# Altium integrated library Dallas Memory Non-Volatile RAM.IntLib: 259 symbols (part 6 of 6)
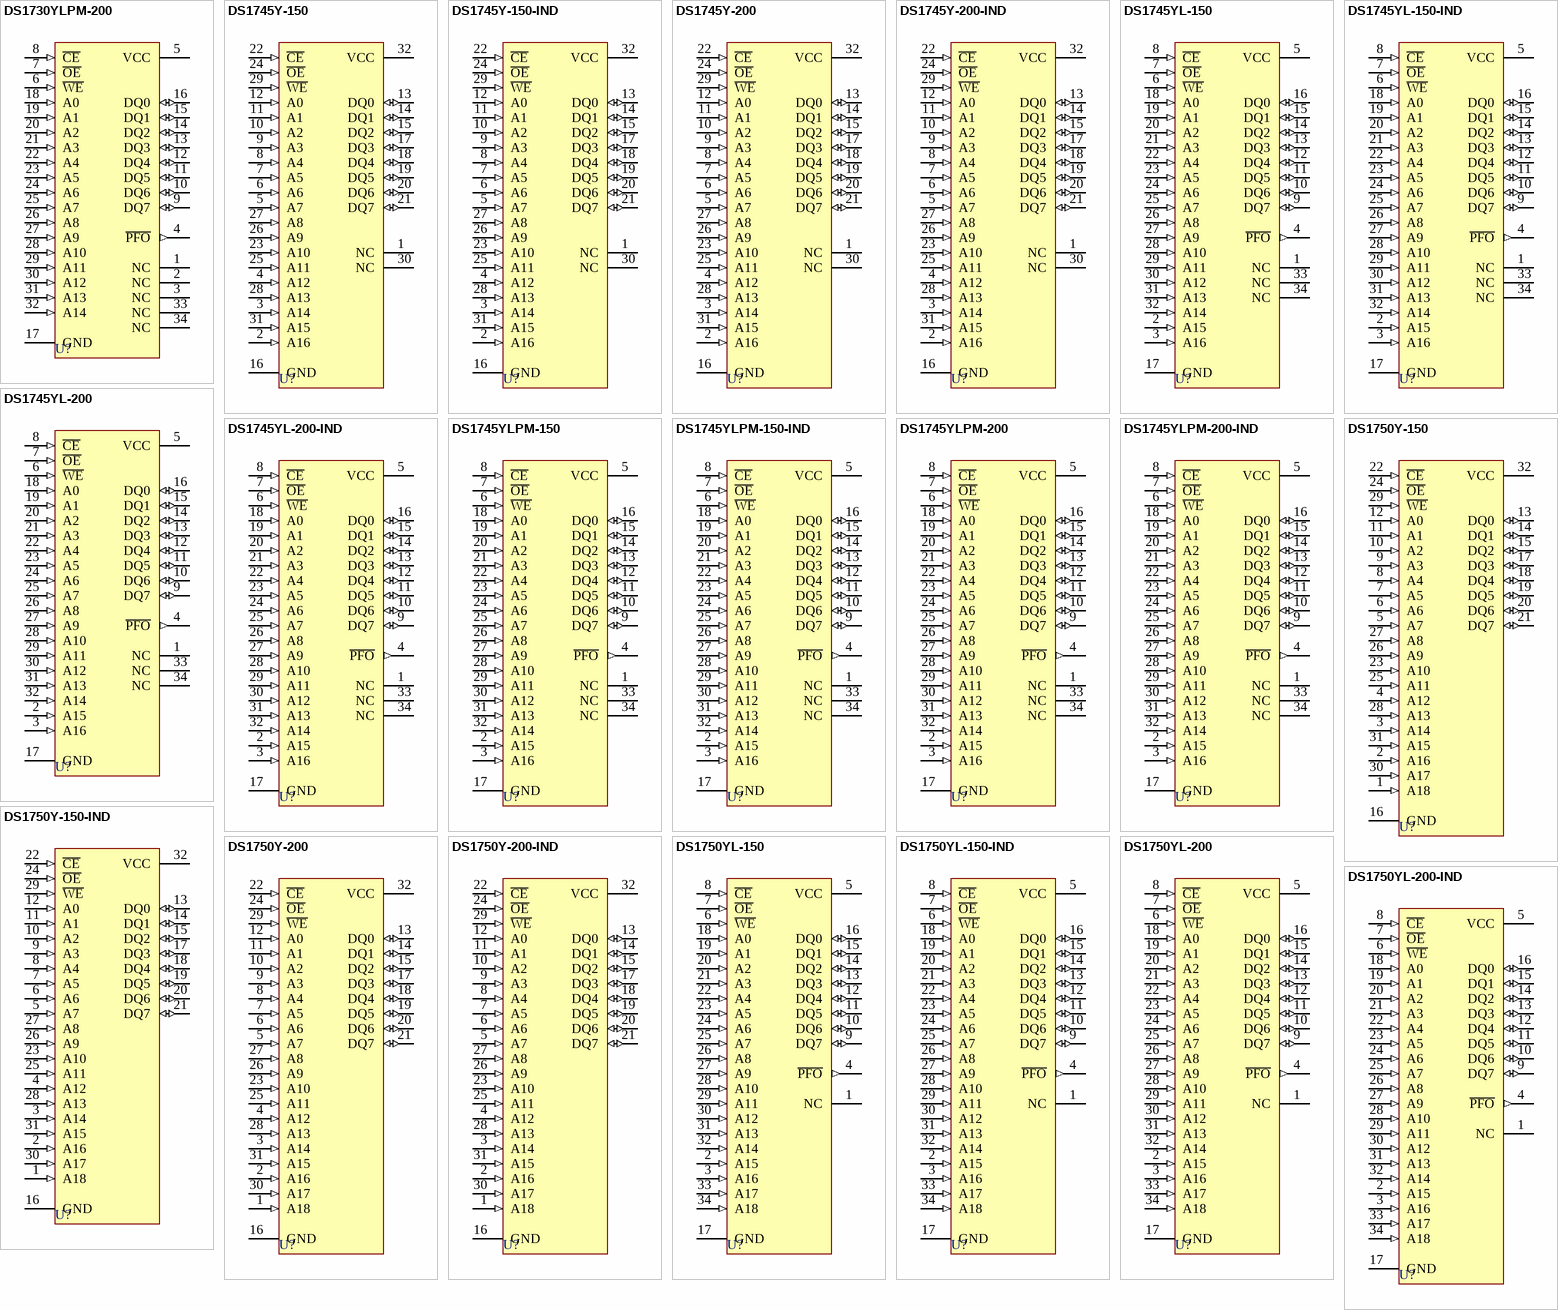
[diagram p16: symbols DS1730YLPM-200 to DS1750YL-200-IND]

## DS1750Y-150
designator U?
3V Partitionable 4096K Nonvolatile SRAM; Published: 13-Oct-2000; LatestRevisionDate: 17-Jul-2002; LatestRevisionNote: PCB footprint, 'DIP-P32/X1.2' replaced; Re-released for DXP Platform.; DatasheetVersion: 3-Oct-1995; PackageReference: ENDIP32; Publisher: Altium Limited; PackageDescription: DIP; 32 Rectangular Pins; Row Space 15.24 mm; Pitch 2.54 mm; ComponentLink1Description: Manufacturer Link; ComponentLink1URL: http://www.maxim-ic.com/
footprint ENDIP32 (DIP; 32 Rectangular Pins; Row Space 15.24 mm; Pitch 2.54 mm)
pins: 1 A18 (in), 2 A16 (in), 3 A14 (in), 4 A12 (in), 5 A7 (in), 6 A6 (in), 7 A5 (in), 8 A4 (in), 9 A3 (in), 10 A2 (in), 11 A1 (in), 12 A0 (in), 13 DQ0 (io), 14 DQ1 (io), 15 DQ2 (io), 16 GND (power), 17 DQ3 (io), 18 DQ4 (io), 19 DQ5 (io), 20 DQ6 (io), 21 DQ7 (io), 22 ~{CE} (in), 23 A10 (in), 24 ~{OE} (in), 25 A11 (in), 26 A9 (in), 27 A8 (in), 28 A13 (in), 29 ~{WE} (in), 30 A17 (in), 31 A15 (in), 32 VCC (power)

## DS1750Y-150-IND
designator U?
3V Partitionable 4096K Nonvolatile SRAM; Published: 13-Oct-2000; LatestRevisionDate: 17-Jul-2002; LatestRevisionNote: PCB footprint, 'DIP-P32/X1.2' replaced; Re-released for DXP Platform.; DatasheetVersion: 3-Oct-1995; PackageReference: ENDIP32; Publisher: Altium Limited; PackageDescription: DIP; 32 Rectangular Pins; Row Space 15.24 mm; Pitch 2.54 mm; ComponentLink1Description: Manufacturer Link; ComponentLink1URL: http://www.maxim-ic.com/
footprint ENDIP32 (DIP; 32 Rectangular Pins; Row Space 15.24 mm; Pitch 2.54 mm)
pins: 1 A18 (in), 2 A16 (in), 3 A14 (in), 4 A12 (in), 5 A7 (in), 6 A6 (in), 7 A5 (in), 8 A4 (in), 9 A3 (in), 10 A2 (in), 11 A1 (in), 12 A0 (in), 13 DQ0 (io), 14 DQ1 (io), 15 DQ2 (io), 16 GND (power), 17 DQ3 (io), 18 DQ4 (io), 19 DQ5 (io), 20 DQ6 (io), 21 DQ7 (io), 22 ~{CE} (in), 23 A10 (in), 24 ~{OE} (in), 25 A11 (in), 26 A9 (in), 27 A8 (in), 28 A13 (in), 29 ~{WE} (in), 30 A17 (in), 31 A15 (in), 32 VCC (power)

## DS1750Y-200
designator U?
3V Partitionable 4096K Nonvolatile SRAM; Published: 13-Oct-2000; LatestRevisionDate: 17-Jul-2002; LatestRevisionNote: PCB footprint, 'DIP-P32/X1.2' replaced; Re-released for DXP Platform.; DatasheetVersion: 3-Oct-1995; PackageReference: ENDIP32; Publisher: Altium Limited; PackageDescription: DIP; 32 Rectangular Pins; Row Space 15.24 mm; Pitch 2.54 mm; ComponentLink1Description: Manufacturer Link; ComponentLink1URL: http://www.maxim-ic.com/
footprint ENDIP32 (DIP; 32 Rectangular Pins; Row Space 15.24 mm; Pitch 2.54 mm)
pins: 1 A18 (in), 2 A16 (in), 3 A14 (in), 4 A12 (in), 5 A7 (in), 6 A6 (in), 7 A5 (in), 8 A4 (in), 9 A3 (in), 10 A2 (in), 11 A1 (in), 12 A0 (in), 13 DQ0 (io), 14 DQ1 (io), 15 DQ2 (io), 16 GND (power), 17 DQ3 (io), 18 DQ4 (io), 19 DQ5 (io), 20 DQ6 (io), 21 DQ7 (io), 22 ~{CE} (in), 23 A10 (in), 24 ~{OE} (in), 25 A11 (in), 26 A9 (in), 27 A8 (in), 28 A13 (in), 29 ~{WE} (in), 30 A17 (in), 31 A15 (in), 32 VCC (power)

## DS1750Y-200-IND
designator U?
3V Partitionable 4096K Nonvolatile SRAM; Published: 13-Oct-2000; LatestRevisionDate: 17-Jul-2002; LatestRevisionNote: PCB footprint, 'DIP-P32/X1.2' replaced; Re-released for DXP Platform.; DatasheetVersion: 3-Oct-1995; PackageReference: ENDIP32; Publisher: Altium Limited; PackageDescription: DIP; 32 Rectangular Pins; Row Space 15.24 mm; Pitch 2.54 mm; ComponentLink1Description: Manufacturer Link; ComponentLink1URL: http://www.maxim-ic.com/
footprint ENDIP32 (DIP; 32 Rectangular Pins; Row Space 15.24 mm; Pitch 2.54 mm)
pins: 1 A18 (in), 2 A16 (in), 3 A14 (in), 4 A12 (in), 5 A7 (in), 6 A6 (in), 7 A5 (in), 8 A4 (in), 9 A3 (in), 10 A2 (in), 11 A1 (in), 12 A0 (in), 13 DQ0 (io), 14 DQ1 (io), 15 DQ2 (io), 16 GND (power), 17 DQ3 (io), 18 DQ4 (io), 19 DQ5 (io), 20 DQ6 (io), 21 DQ7 (io), 22 ~{CE} (in), 23 A10 (in), 24 ~{OE} (in), 25 A11 (in), 26 A9 (in), 27 A8 (in), 28 A13 (in), 29 ~{WE} (in), 30 A17 (in), 31 A15 (in), 32 VCC (power)

## DS1750YL-150
designator U?
3V Partitionable 4096K Nonvolatile SRAM; Note: Pin number 1 is Not Connected (NC); Published: 13-Oct-2000; LatestRevisionDate: 17-Jul-2002; LatestRevisionNote: Re-released for DXP Platform.; DatasheetVersion: 3-Oct-1995; PackageVersion: Feb-1998; PackageReference: LPM34; Publisher: Altium Limited; PackageDescription: LPM; 34 Leads; Body 24.6 x 25 mm (LxW typ); Pitch 1.27 mm; ComponentLink1Description: Manufacturer Link; ComponentLink1URL: http://www.maxim-ic.com/
footprint LPM34
pins: 1 NC, 2 A15 (in), 3 A16 (in), 4 ~{PFO} (out), 5 VCC (power), 6 ~{WE} (in), 7 ~{OE} (in), 8 ~{CE} (in), 9 DQ7 (io), 10 DQ6 (io), 11 DQ5 (io), 12 DQ4 (io), 13 DQ3 (io), 14 DQ2 (io), 15 DQ1 (io), 16 DQ0 (io), 17 GND (power), 18 A0 (in), 19 A1 (in), 20 A2 (in), 21 A3 (in), 22 A4 (in), 23 A5 (in), 24 A6 (in), 25 A7 (in), 26 A8 (in), 27 A9 (in), 28 A10 (in), 29 A11 (in), 30 A12 (in), 31 A13 (in), 32 A14 (in), 33 A17 (in), 34 A18 (in)

## DS1750YL-150-IND
designator U?
3V Partitionable 4096K Nonvolatile SRAM; Note: Pin number 1 is Not Connected (NC); Published: 13-Oct-2000; LatestRevisionDate: 17-Jul-2002; LatestRevisionNote: Re-released for DXP Platform.; DatasheetVersion: 3-Oct-1995; PackageVersion: Feb-1998; PackageReference: LPM34; Publisher: Altium Limited; PackageDescription: LPM; 34 Leads; Body 24.6 x 25 mm (LxW typ); Pitch 1.27 mm; ComponentLink1Description: Manufacturer Link; ComponentLink1URL: http://www.maxim-ic.com/
footprint LPM34
pins: 1 NC, 2 A15 (in), 3 A16 (in), 4 ~{PFO} (out), 5 VCC (power), 6 ~{WE} (in), 7 ~{OE} (in), 8 ~{CE} (in), 9 DQ7 (io), 10 DQ6 (io), 11 DQ5 (io), 12 DQ4 (io), 13 DQ3 (io), 14 DQ2 (io), 15 DQ1 (io), 16 DQ0 (io), 17 GND (power), 18 A0 (in), 19 A1 (in), 20 A2 (in), 21 A3 (in), 22 A4 (in), 23 A5 (in), 24 A6 (in), 25 A7 (in), 26 A8 (in), 27 A9 (in), 28 A10 (in), 29 A11 (in), 30 A12 (in), 31 A13 (in), 32 A14 (in), 33 A17 (in), 34 A18 (in)

## DS1750YL-200
designator U?
3V Partitionable 4096K Nonvolatile SRAM; Note: Pin number 1 is Not Connected (NC); Published: 13-Oct-2000; LatestRevisionDate: 17-Jul-2002; LatestRevisionNote: Re-released for DXP Platform.; DatasheetVersion: 3-Oct-1995; PackageVersion: Feb-1998; PackageReference: LPM34; Publisher: Altium Limited; PackageDescription: LPM; 34 Leads; Body 24.6 x 25 mm (LxW typ); Pitch 1.27 mm; ComponentLink1Description: Manufacturer Link; ComponentLink1URL: http://www.maxim-ic.com/
footprint LPM34
pins: 1 NC, 2 A15 (in), 3 A16 (in), 4 ~{PFO} (out), 5 VCC (power), 6 ~{WE} (in), 7 ~{OE} (in), 8 ~{CE} (in), 9 DQ7 (io), 10 DQ6 (io), 11 DQ5 (io), 12 DQ4 (io), 13 DQ3 (io), 14 DQ2 (io), 15 DQ1 (io), 16 DQ0 (io), 17 GND (power), 18 A0 (in), 19 A1 (in), 20 A2 (in), 21 A3 (in), 22 A4 (in), 23 A5 (in), 24 A6 (in), 25 A7 (in), 26 A8 (in), 27 A9 (in), 28 A10 (in), 29 A11 (in), 30 A12 (in), 31 A13 (in), 32 A14 (in), 33 A17 (in), 34 A18 (in)

## DS1750YL-200-IND
designator U?
3V Partitionable 4096K Nonvolatile SRAM; Note: Pin number 1 is Not Connected (NC); Published: 13-Oct-2000; LatestRevisionDate: 17-Jul-2002; LatestRevisionNote: Re-released for DXP Platform.; DatasheetVersion: 3-Oct-1995; PackageVersion: Feb-1998; PackageReference: LPM34; Publisher: Altium Limited; PackageDescription: LPM; 34 Leads; Body 24.6 x 25 mm (LxW typ); Pitch 1.27 mm; ComponentLink1Description: Manufacturer Link; ComponentLink1URL: http://www.maxim-ic.com/
footprint LPM34
pins: 1 NC, 2 A15 (in), 3 A16 (in), 4 ~{PFO} (out), 5 VCC (power), 6 ~{WE} (in), 7 ~{OE} (in), 8 ~{CE} (in), 9 DQ7 (io), 10 DQ6 (io), 11 DQ5 (io), 12 DQ4 (io), 13 DQ3 (io), 14 DQ2 (io), 15 DQ1 (io), 16 DQ0 (io), 17 GND (power), 18 A0 (in), 19 A1 (in), 20 A2 (in), 21 A3 (in), 22 A4 (in), 23 A5 (in), 24 A6 (in), 25 A7 (in), 26 A8 (in), 27 A9 (in), 28 A10 (in), 29 A11 (in), 30 A12 (in), 31 A13 (in), 32 A14 (in), 33 A17 (in), 34 A18 (in)

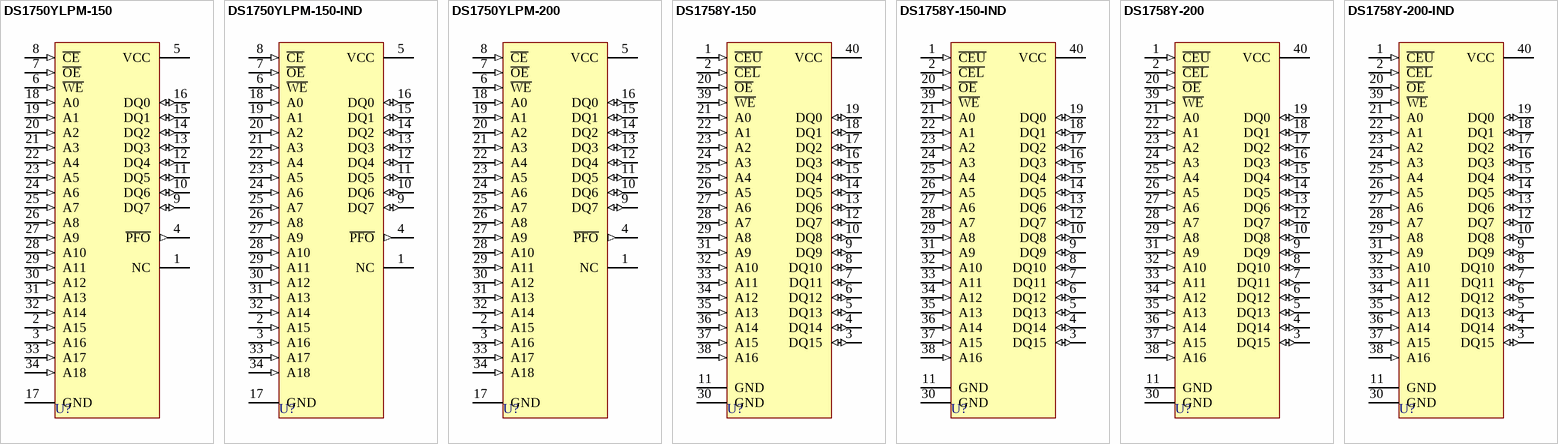
[diagram p11: symbols DS1750YLPM-150 to DS1758Y-200-IND]

## DS1750YLPM-150
designator U?
3V Partitionable 4096K Nonvolatile SRAM; Note: Pin number 1 is Not Connected (NC); Published: 13-Oct-2000; LatestRevisionDate: 17-Jul-2002; LatestRevisionNote: Re-released for DXP Platform.; DatasheetVersion: 25-May-1995; PackageVersion: Mar-1998; PackageReference: LPM34C; Publisher: Altium Limited; PackageDescription: LPM; 34 Leads; Body 24.4 x 25 mm (LxW typ); Pitch 1.27 mm; ComponentLink1Description: Manufacturer Link; ComponentLink1URL: http://www.maxim-ic.com/
footprint LPM34C (LPM; 34 Leads; Body 24.4 x 25 mm (LxW typ); Pitch 1.27 mm)
pins: 1 NC, 2 A15 (in), 3 A16 (in), 4 ~{PFO} (out), 5 VCC (power), 6 ~{WE} (in), 7 ~{OE} (in), 8 ~{CE} (in), 9 DQ7 (io), 10 DQ6 (io), 11 DQ5 (io), 12 DQ4 (io), 13 DQ3 (io), 14 DQ2 (io), 15 DQ1 (io), 16 DQ0 (io), 17 GND (power), 18 A0 (in), 19 A1 (in), 20 A2 (in), 21 A3 (in), 22 A4 (in), 23 A5 (in), 24 A6 (in), 25 A7 (in), 26 A8 (in), 27 A9 (in), 28 A10 (in), 29 A11 (in), 30 A12 (in), 31 A13 (in), 32 A14 (in), 33 A17 (in), 34 A18 (in)

## DS1750YLPM-150-IND
designator U?
3V Partitionable 4096K Nonvolatile SRAM; Note: Pin number 1 is Not Connected (NC); Published: 13-Oct-2000; LatestRevisionDate: 17-Jul-2002; LatestRevisionNote: Re-released for DXP Platform.; DatasheetVersion: 25-May-1995; PackageVersion: Mar-1998; PackageReference: LPM34C; Publisher: Altium Limited; PackageDescription: LPM; 34 Leads; Body 24.4 x 25 mm (LxW typ); Pitch 1.27 mm; ComponentLink1Description: Manufacturer Link; ComponentLink1URL: http://www.maxim-ic.com/
footprint LPM34C (LPM; 34 Leads; Body 24.4 x 25 mm (LxW typ); Pitch 1.27 mm)
pins: 1 NC, 2 A15 (in), 3 A16 (in), 4 ~{PFO} (out), 5 VCC (power), 6 ~{WE} (in), 7 ~{OE} (in), 8 ~{CE} (in), 9 DQ7 (io), 10 DQ6 (io), 11 DQ5 (io), 12 DQ4 (io), 13 DQ3 (io), 14 DQ2 (io), 15 DQ1 (io), 16 DQ0 (io), 17 GND (power), 18 A0 (in), 19 A1 (in), 20 A2 (in), 21 A3 (in), 22 A4 (in), 23 A5 (in), 24 A6 (in), 25 A7 (in), 26 A8 (in), 27 A9 (in), 28 A10 (in), 29 A11 (in), 30 A12 (in), 31 A13 (in), 32 A14 (in), 33 A17 (in), 34 A18 (in)

## DS1750YLPM-200
designator U?
3V Partitionable 4096K Nonvolatile SRAM; Note: Pin number 1 is Not Connected (NC); Published: 13-Oct-2000; LatestRevisionDate: 17-Jul-2002; LatestRevisionNote: Re-released for DXP Platform.; DatasheetVersion: 25-May-1995; PackageVersion: Mar-1998; PackageReference: LPM34C; Publisher: Altium Limited; PackageDescription: LPM; 34 Leads; Body 24.4 x 25 mm (LxW typ); Pitch 1.27 mm; ComponentLink1Description: Manufacturer Link; ComponentLink1URL: http://www.maxim-ic.com/
footprint LPM34C (LPM; 34 Leads; Body 24.4 x 25 mm (LxW typ); Pitch 1.27 mm)
pins: 1 NC, 2 A15 (in), 3 A16 (in), 4 ~{PFO} (out), 5 VCC (power), 6 ~{WE} (in), 7 ~{OE} (in), 8 ~{CE} (in), 9 DQ7 (io), 10 DQ6 (io), 11 DQ5 (io), 12 DQ4 (io), 13 DQ3 (io), 14 DQ2 (io), 15 DQ1 (io), 16 DQ0 (io), 17 GND (power), 18 A0 (in), 19 A1 (in), 20 A2 (in), 21 A3 (in), 22 A4 (in), 23 A5 (in), 24 A6 (in), 25 A7 (in), 26 A8 (in), 27 A9 (in), 28 A10 (in), 29 A11 (in), 30 A12 (in), 31 A13 (in), 32 A14 (in), 33 A17 (in), 34 A18 (in)

## DS1758Y-150
designator U?
3V Partitionable 128K x 16 Nonvolatile SRAM; Published: 13-Oct-2000; LatestRevisionDate: 17-Jul-2002; LatestRevisionNote: Re-released for DXP Platform.; DatasheetVersion: 3-Oct-1995; PackageReference: ENDIP40; Publisher: Altium Limited; PackageDescription: DIP; 40 Rectangular Pins; Row Space 15.24 mm; Pitch 2.54 mm; ComponentLink1Description: Manufacturer Link; ComponentLink1URL: http://www.maxim-ic.com/
footprint ENDIP40 (DIP; 40 Rectangular Pins; Row Space 15.24 mm; Pitch 2.54 mm)
pins: 1 ~{CEU} (in), 2 ~{CEL} (in), 3 DQ15 (io), 4 DQ14 (io), 5 DQ13 (io), 6 DQ12 (io), 7 DQ11 (io), 8 DQ10 (io), 9 DQ9 (io), 10 DQ8 (io), 11 GND (power), 12 DQ7 (io), 13 DQ6 (io), 14 DQ5 (io), 15 DQ4 (io), 16 DQ3 (io), 17 DQ2 (io), 18 DQ1 (io), 19 DQ0 (io), 20 ~{OE} (in), 21 A0 (in), 22 A1 (in), 23 A2 (in), 24 A3 (in), 25 A4 (in), 26 A5 (in), 27 A6 (in), 28 A7 (in), 29 A8 (in), 30 GND (power), 31 A9 (in), 32 A10 (in), 33 A11 (in), 34 A12 (in), 35 A13 (in), 36 A14 (in), 37 A15 (in), 38 A16 (in), 39 ~{WE} (in), 40 VCC (power)

## DS1758Y-150-IND
designator U?
3V Partitionable 128K x 16 Nonvolatile SRAM; Published: 13-Oct-2000; LatestRevisionDate: 17-Jul-2002; LatestRevisionNote: Re-released for DXP Platform.; DatasheetVersion: 3-Oct-1995; PackageReference: ENDIP40; Publisher: Altium Limited; PackageDescription: DIP; 40 Rectangular Pins; Row Space 15.24 mm; Pitch 2.54 mm; ComponentLink1Description: Manufacturer Link; ComponentLink1URL: http://www.maxim-ic.com/
footprint ENDIP40 (DIP; 40 Rectangular Pins; Row Space 15.24 mm; Pitch 2.54 mm)
pins: 1 ~{CEU} (in), 2 ~{CEL} (in), 3 DQ15 (io), 4 DQ14 (io), 5 DQ13 (io), 6 DQ12 (io), 7 DQ11 (io), 8 DQ10 (io), 9 DQ9 (io), 10 DQ8 (io), 11 GND (power), 12 DQ7 (io), 13 DQ6 (io), 14 DQ5 (io), 15 DQ4 (io), 16 DQ3 (io), 17 DQ2 (io), 18 DQ1 (io), 19 DQ0 (io), 20 ~{OE} (in), 21 A0 (in), 22 A1 (in), 23 A2 (in), 24 A3 (in), 25 A4 (in), 26 A5 (in), 27 A6 (in), 28 A7 (in), 29 A8 (in), 30 GND (power), 31 A9 (in), 32 A10 (in), 33 A11 (in), 34 A12 (in), 35 A13 (in), 36 A14 (in), 37 A15 (in), 38 A16 (in), 39 ~{WE} (in), 40 VCC (power)

## DS1758Y-200
designator U?
3V Partitionable 128K x 16 Nonvolatile SRAM; Published: 13-Oct-2000; LatestRevisionDate: 17-Jul-2002; LatestRevisionNote: Re-released for DXP Platform.; DatasheetVersion: 3-Oct-1995; PackageReference: ENDIP40; Publisher: Altium Limited; PackageDescription: DIP; 40 Rectangular Pins; Row Space 15.24 mm; Pitch 2.54 mm; ComponentLink1Description: Manufacturer Link; ComponentLink1URL: http://www.maxim-ic.com/
footprint ENDIP40 (DIP; 40 Rectangular Pins; Row Space 15.24 mm; Pitch 2.54 mm)
pins: 1 ~{CEU} (in), 2 ~{CEL} (in), 3 DQ15 (io), 4 DQ14 (io), 5 DQ13 (io), 6 DQ12 (io), 7 DQ11 (io), 8 DQ10 (io), 9 DQ9 (io), 10 DQ8 (io), 11 GND (power), 12 DQ7 (io), 13 DQ6 (io), 14 DQ5 (io), 15 DQ4 (io), 16 DQ3 (io), 17 DQ2 (io), 18 DQ1 (io), 19 DQ0 (io), 20 ~{OE} (in), 21 A0 (in), 22 A1 (in), 23 A2 (in), 24 A3 (in), 25 A4 (in), 26 A5 (in), 27 A6 (in), 28 A7 (in), 29 A8 (in), 30 GND (power), 31 A9 (in), 32 A10 (in), 33 A11 (in), 34 A12 (in), 35 A13 (in), 36 A14 (in), 37 A15 (in), 38 A16 (in), 39 ~{WE} (in), 40 VCC (power)

## DS1758Y-200-IND
designator U?
3V Partitionable 128K x 16 Nonvolatile SRAM; Published: 13-Oct-2000; LatestRevisionDate: 17-Jul-2002; LatestRevisionNote: Re-released for DXP Platform.; DatasheetVersion: 3-Oct-1995; PackageReference: ENDIP40; Publisher: Altium Limited; PackageDescription: DIP; 40 Rectangular Pins; Row Space 15.24 mm; Pitch 2.54 mm; ComponentLink1Description: Manufacturer Link; ComponentLink1URL: http://www.maxim-ic.com/
footprint ENDIP40 (DIP; 40 Rectangular Pins; Row Space 15.24 mm; Pitch 2.54 mm)
pins: 1 ~{CEU} (in), 2 ~{CEL} (in), 3 DQ15 (io), 4 DQ14 (io), 5 DQ13 (io), 6 DQ12 (io), 7 DQ11 (io), 8 DQ10 (io), 9 DQ9 (io), 10 DQ8 (io), 11 GND (power), 12 DQ7 (io), 13 DQ6 (io), 14 DQ5 (io), 15 DQ4 (io), 16 DQ3 (io), 17 DQ2 (io), 18 DQ1 (io), 19 DQ0 (io), 20 ~{OE} (in), 21 A0 (in), 22 A1 (in), 23 A2 (in), 24 A3 (in), 25 A4 (in), 26 A5 (in), 27 A6 (in), 28 A7 (in), 29 A8 (in), 30 GND (power), 31 A9 (in), 32 A10 (in), 33 A11 (in), 34 A12 (in), 35 A13 (in), 36 A14 (in), 37 A15 (in), 38 A16 (in), 39 ~{WE} (in), 40 VCC (power)